# Altium schematic symbol library BFP760.SchLib: 1 symbol
Pins are listed as number, name and electrical type; pins without a type are passive.

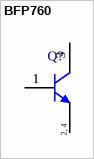
[diagram p0: symbol BFP760]

## BFP760
designator Q?
Low Noise Silicon Germanium Bipolar RF Transistor, 4 V, 70 mA IC, SOT343 (SC-82), Reel, Green; Manufacturer: Infineon; PartNumber: BFP760; fT (typ): 45 GHz; Gmax (typ): 25 dB; Green: TRUE; IC(max): 70 mA; NFmin (typ): 0.5 dB; OIP3: 31.5 dBm; OP1dB: 14.5 dBm; Ptot (max): 240 mW; VCEO (max): 4 V; DatasheetVersion: Rev. 1.0; PackageVersion: Apr-08; PackageReference: SOT343 (SC-82); PackageDescription: 4-Pin Small Outline Transistor Package, 2 x 1.25 mm Body, 1.3 mm Pitch; Halogen-free: TRUE; Packing: Reel; Mounting Technology: Surface Mount; ComponentLink1Description: Manufacturer URL; ComponentLink1URL: http://www.infineon.com/; ComponentLink2Description: Datasheet; ComponentLink2URL: http://www.infineon.com/dgdl/Infineon+SiGe+LNA+BFP760+Rev_1.pdf?folderId=db3a30431f848401011fcbf2ab4c04c4&fileId=db3a30433c1a8752013c3905d2ef4a3a; ComponentLink3Description: Package Specification; ComponentLink3URL: http://www.infineon.com/dgdl/SOT343-Package_Overview.pdf?folderId=db3a30431936bc4b0119535155343cba&fileId=db3a30431936bc4b0119535a9f393cd3
footprint INF-SOT343 (SC-82)_N (SOT343, 4-Leads, Body 2x1.25mm, Pitch 1.3mm, IPC Medium Density)
footprint INF-SOT343 (SC-82)_L (SOT343, 4-Leads, Body 2x1.25mm, Pitch 1.3mm, IPC High Density)
footprint INF-SOT343 (SC-82)_M (SOT343, 4-Leads, Body 2x1.25mm, Pitch 1.3mm, IPC Low Density)
pins: 1 B, 2 E, 3 C, 4 E
text: 2, 4